# EAGLE library part MC41605A12W (library midas)
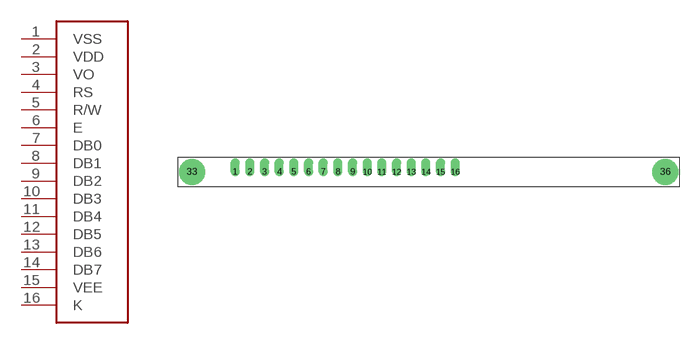
[diagram p1: symbol with the pads of CONNECTOR; footprint CONNECTOR]

Designator prefix LCD

## MC41605A12W-VNMLW  [CONNECTOR]
1  VSS
2  VDD
3  VO
4  RS
5  R/W
6  E
7  DB0
8  DB1
9  DB2
10  DB3
11  DB4
12  DB5
13  DB6
14  DB7
15  VEE
16  K

## Footprint CONNECTOR (pad centres in mm)
drill 1 pad 1.6 offset: 1 -33.5,0; 2 -30.96,0; 3 -28.42,0; 4 -25.88,0; 5 -23.34,0; 6 -20.8,0; 7 -18.26,0; 8 -15.72,0; 9 -13.18,0; 10 -10.64,0; 11 -8.1,0; 12 -5.56,0; 13 -3.02,0; 14 -0.48,0; 15 2.06,0; 16 4.6,0
drill 2.7 pad 4.5: 33 -41,0; 36 41,0